# EAGLE library part A00-216-X62-450 (library launchpad_bp)
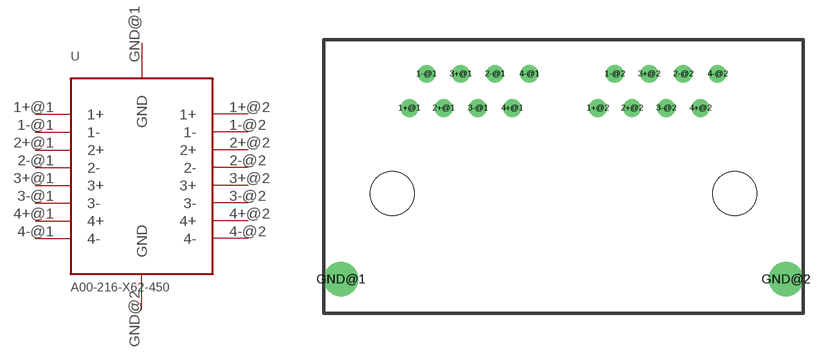
[diagram p12: symbol with the pads of A00-216-X62-450; footprint A00-216-X62-450]

Designator prefix -

## A00-216-X62-450  [A00-216-X62-450]
1+@1  1+
1+@2  1+
1-@1  1-
1-@2  1-
2+@1  2+
2+@2  2+
2-@1  2-
2-@2  2-
3+@1  3+
3+@2  3+
3-@1  3-
3-@2  3-
4+@1  4+
4+@2  4+
4-@1  4-
4-@2  4-
GND@1  GND  pwr
GND@2  GND  pwr

## Footprint A00-216-X62-450 (pad centres in mm)
drill 0.813: 1+@1 -11.43,0; 1+@2 2.54,0; 1-@1 -10.16,2.54; 1-@2 3.81,2.54; 2+@1 -8.89,0; 2+@2 5.08,0; 2-@1 -5.08,2.54; 2-@2 8.89,2.54; 3+@1 -7.62,2.54; 3+@2 6.35,2.54; 3-@1 -6.35,0; 3-@2 7.62,0; 4+@1 -3.81,0; 4+@2 10.16,0; 4-@1 -2.54,2.54; 4-@2 11.43,2.54
drill 1.702: GND@1 -16.51,-12.7; GND@2 16.51,-12.7
hole 3.251 at -12.7,-6.35
hole 3.251 at 12.7,-6.35